# EAGLE library part RCJ-COM-2024 (library RCJ-COM 2024 eagle)
RCJ Communication Module This is a module provided by the organizers of a tournament and used to control the robots via the Smartphones of a referee. Link to Github <https://github.com/robocup-junior/soccer-communication-module>
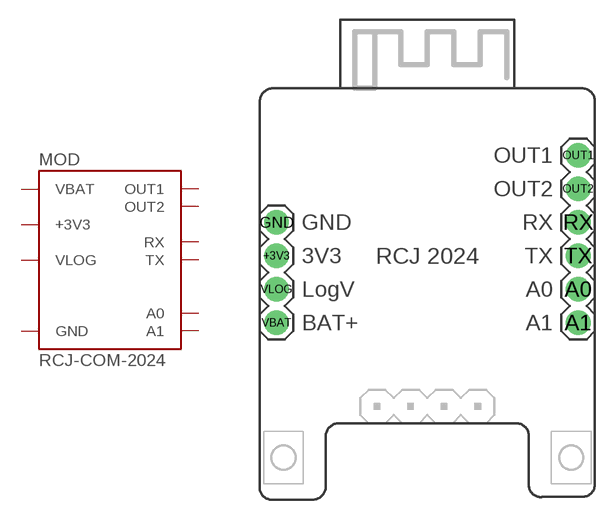
[diagram p0: symbol with the pads of RCJ-COM-2024; footprint RCJ-COM-2024]

Designator prefix MOD

## RCJ-COM-2024  [RCJ-COM-2024]
+3V3  +3V3
A0  A0
A1  A1
GND  GND
OUT1  OUT1
OUT2  OUT2
RX  RX
TX  TX
VBAT  VBAT
VLOG  VLOG

## Footprint RCJ-COM-2024 (pad centres in mm)
RCJ-Communication Module 2024
drill 0.9 pad 1.88: +3V3 -11.43,0; A0 11.43,-2.54; A1 11.43,-5.08; GND -11.43,2.54; OUT1 11.43,7.62; OUT2 11.43,5.08; RX 11.43,2.54; TX 11.43,0; VBAT -11.43,-5.08; VLOG -11.43,-2.54